# Altium footprint library PDIP8.PcbLib: 1 footprints
Each footprint in its own frame and in the unit in brackets; x right, y up, seen from the top. Pads: shape width x height; smd on the part's side, far side on the other; paste and mask are expansions set on the pad; w line width, h text height; cw(c..) or ccw(c..) is an arc to the next point about the centre after c.
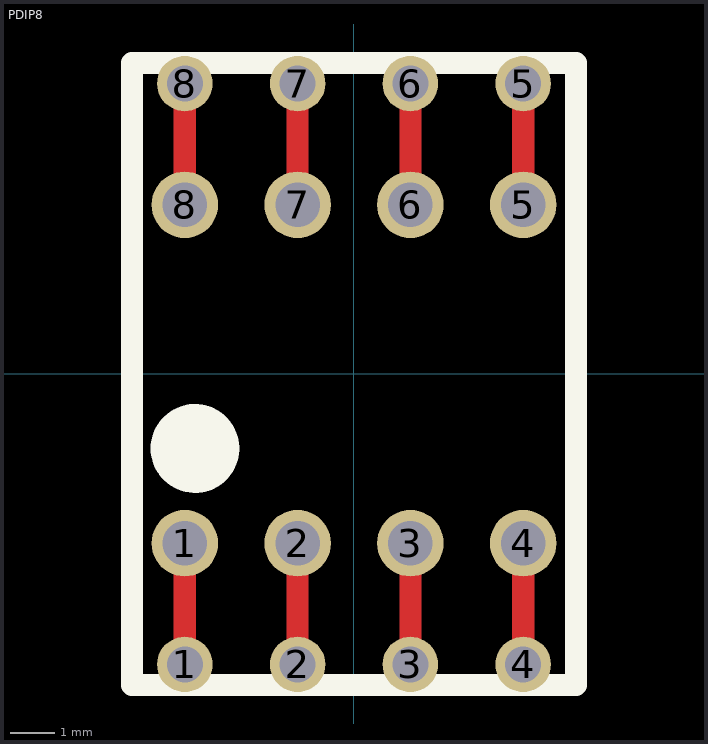
[diagram p0: the footprint, top view; thin cyan lines are the x and y axes]

## PDIP8 [mm]
pads (16):
  round 1.25 hole 0.813: 1(-3.81,-6.54) 2(-1.27,-6.54) 3(1.27,-6.54) 4(3.81,-6.54) 5(3.81,6.54) 6(1.27,6.54) 7(-1.27,6.54) 8(-3.81,6.54)
  round 1.5 hole 1: 1(-3.81,-3.81) 2(-1.27,-3.81) 3(1.27,-3.81) 4(3.81,-3.81) 5(3.81,3.81) 6(1.27,3.81) 7(-1.27,3.81) 8(-3.81,3.81)
Top Layer:
  lines w0.5: -3.81,-6.54 -3.81,-3.81 ; -3.81,3.81 -3.81,6.54 ; -1.27,-6.54 -1.27,-3.658 ; -1.27,3.81 -1.27,6.54 ; 1.27,-6.54 1.27,-3.81 ; 1.27,3.81 1.27,6.54 ; 3.81,-6.54 3.81,-3.81 ; 3.81,3.81 3.81,6.54
Top Overlay:
  circle w1: c-3.581,-1.676 r0.5
  lines w0.5: -5,-7 -5,7 5,7 5,-7 -5,-7
3D body "Gauge Pressure Sensor Asm.STEP": height 26.61, standoff -4.88, extent -5.332,-7.112 5.336,7.112